# Altium footprint library GRM32ER71E226KE15L.PcbLib: 3 footprints
Each footprint in its own frame and in the unit in brackets; x right, y up, seen from the top. Pads: shape width x height; smd on the part's side, far side on the other; paste and mask are expansions set on the pad; w line width, h text height; cw(c..) or ccw(c..) is an arc to the next point about the centre after c.
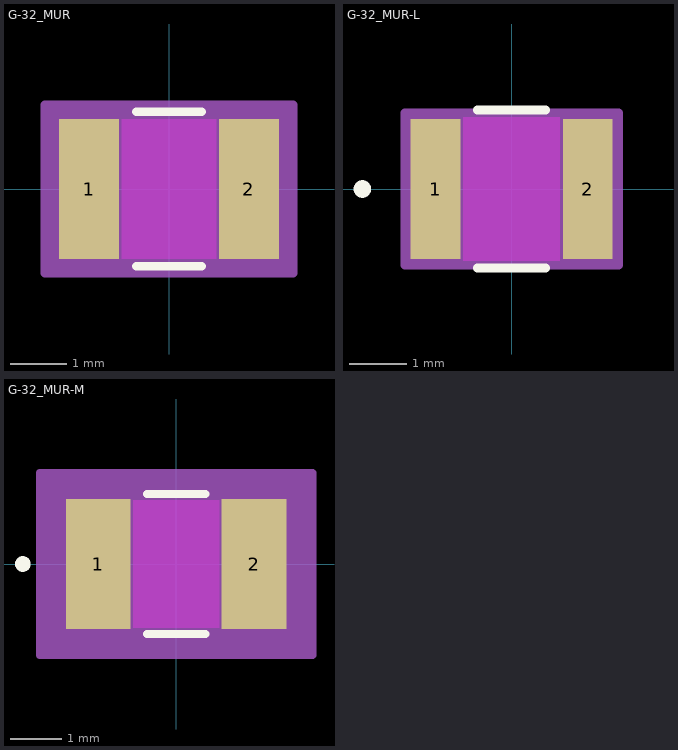
[diagram p0: the footprints below, top view; thin cyan lines are the x and y axes]

## G-32_MUR [mil]
pads (2):
  rect 42x98 smd paste+0 mask+0: 1(-56,0) 2(56,0)
Top Layer keep-out:
  region: -33,-47 -33,47 33,47 33,-47
Top Overlay:
  lines w6: -22.89,-54 22.89,-54 ; -22.89,54 22.89,54
  text ".Designator" at -137.5,-25 h50
Keep-Out Layer:
  region: -33,-49 -33,49 33,49 33,-49
Mechanical 13:
  circle w1: c-51,0 r0
  lines w1: -63,-49 -63,49 ; -63,-49 -35,-49 -35,49 -63,49 ; -63,-49 63,-49 ; -63,-49 -63,49 ; -63,49 63,49 ; 63,-49 35,-49 35,49 63,49 ; 63,-49 63,49 ; 63,-49 63,49
  text ".Designator" at -137.5,-25 h50
Mechanical 15:
  region: 87,-59 -87,-59 -87,59 87,59
  lines w6: -87,-59 -87,59 87,59 87,-59 -87,-59
3D body "G-32_MUR.step": height 110, standoff 0, extent -62.99,-49.02 62.99,49.02

## G-32_MUR-L [mil]
pads (2):
  rect 34x96 smd paste+0 mask+0: 1(-52,0) 2(52,0)
Top Layer keep-out:
  region: -33,-47 -33,47 33,47 33,-47
Top Overlay:
  circle w6: c-102,0 r3
  lines w6: -23.35,-54 23.35,-54 ; -23.35,54 23.35,54
  text ".Designator" at -137.5,-25 h50
Keep-Out Layer:
  region: -33,-49 -33,49 33,49 33,-49
Mechanical 13:
  circle w1: c-47,0 r3
  lines w1: -63,-49 -63,49 ; -63,-49 -35,-49 -35,49 -63,49 ; -63,-49 63,-49 ; -63,-49 -63,49 ; -63,49 63,49 ; 63,-49 35,-49 35,49 63,49 ; 63,-49 63,49 ; 63,-49 63,49
  text ".Designator" at -137.5,-25 h50
Mechanical 15:
  region: 73,-52 -73,-52 -73,52 73,52
  lines w6: -73,-52 -73,52 73,52 73,-52 -73,-52
3D body "G-32_MUR.step": height 110, standoff 0, extent -62.99,-49.02 62.99,49.02

## G-32_MUR-M [mil]
pads (2):
  rect 50x100 smd paste+0 mask+0: 1(-60,0) 2(60,0)
Top Layer keep-out:
  region: -33,-47 -33,47 33,47 33,-47
Top Overlay:
  circle w6: c-118,0 r3
  lines w6: -22.53,-54 22.53,-54 ; -22.53,54 22.53,54
  text ".Designator" at -137.5,-25 h50
Keep-Out Layer:
  region: -33,-49 -33,49 33,49 33,-49
Mechanical 13:
  circle w1: c-55,0 r3
  lines w1: -63,-49 -63,49 ; -63,-49 -35,-49 -35,49 -63,49 ; -63,-49 63,-49 ; -63,-49 -63,49 ; -63,49 63,49 ; 63,-49 35,-49 35,49 63,49 ; 63,-49 63,49 ; 63,-49 63,49
  text ".Designator" at -137.5,-25 h50
Mechanical 15:
  region: 105,-70 -105,-70 -105,70 105,70
  lines w6: -105,-70 -105,70 105,70 105,-70 -105,-70
3D body "G-32_MUR.step": height 110, standoff 0, extent -62.99,-49.02 62.99,49.02